# EAGLE library part 5-104196-5 (library J-TE-5-104196-5-RA-1.27mm-female-th)
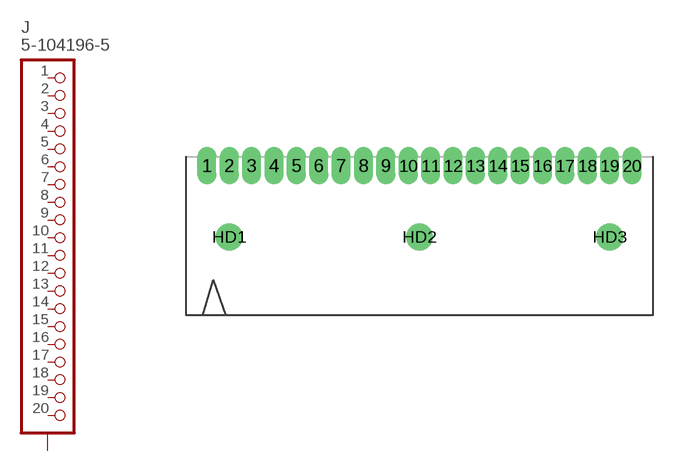
[diagram p0: symbol with the pads of 5-104196-5; footprint 5-104196-5]

Designator prefix J

## 5-104196-5  [5-104196-5]
1  1  pas
2  2  pas
3  3  pas
4  4  pas
5  5  pas
6  6  pas
7  7  pas
8  8  pas
9  9  pas
10  10  pas
11  11  pas
12  12  pas
13  13  pas
14  14  pas
15  15  pas
16  16  pas
17  17  pas
18  18  pas
19  19  pas
20  20  pas
HD1  HD  pas
HD2  HD  pas
HD3  HD  pas

## Footprint 5-104196-5 (pad centres in mm)
drill 0.56 pad 0.9 long: 1 -12.065,0; 2 -10.795,0; 3 -9.525,0; 4 -8.255,0; 5 -6.985,0; 6 -5.715,0; 7 -4.445,0; 8 -3.175,0; 9 -1.905,0; 10 -0.635,0; 11 0.635,0; 12 1.905,0; 13 3.175,0; 14 4.445,0; 15 5.715,0; 16 6.985,0; 17 8.255,0; 18 9.525,0; 19 10.795,0; 20 12.065,0
drill 0.94 pad 1.52: HD1 -10.8,-4.06; HD2 0,-4.06; HD3 10.8,-4.06